# Altium schematic symbol library CM3Board_V1I2.SCHLIB: 170 symbols (part 2 of 5)
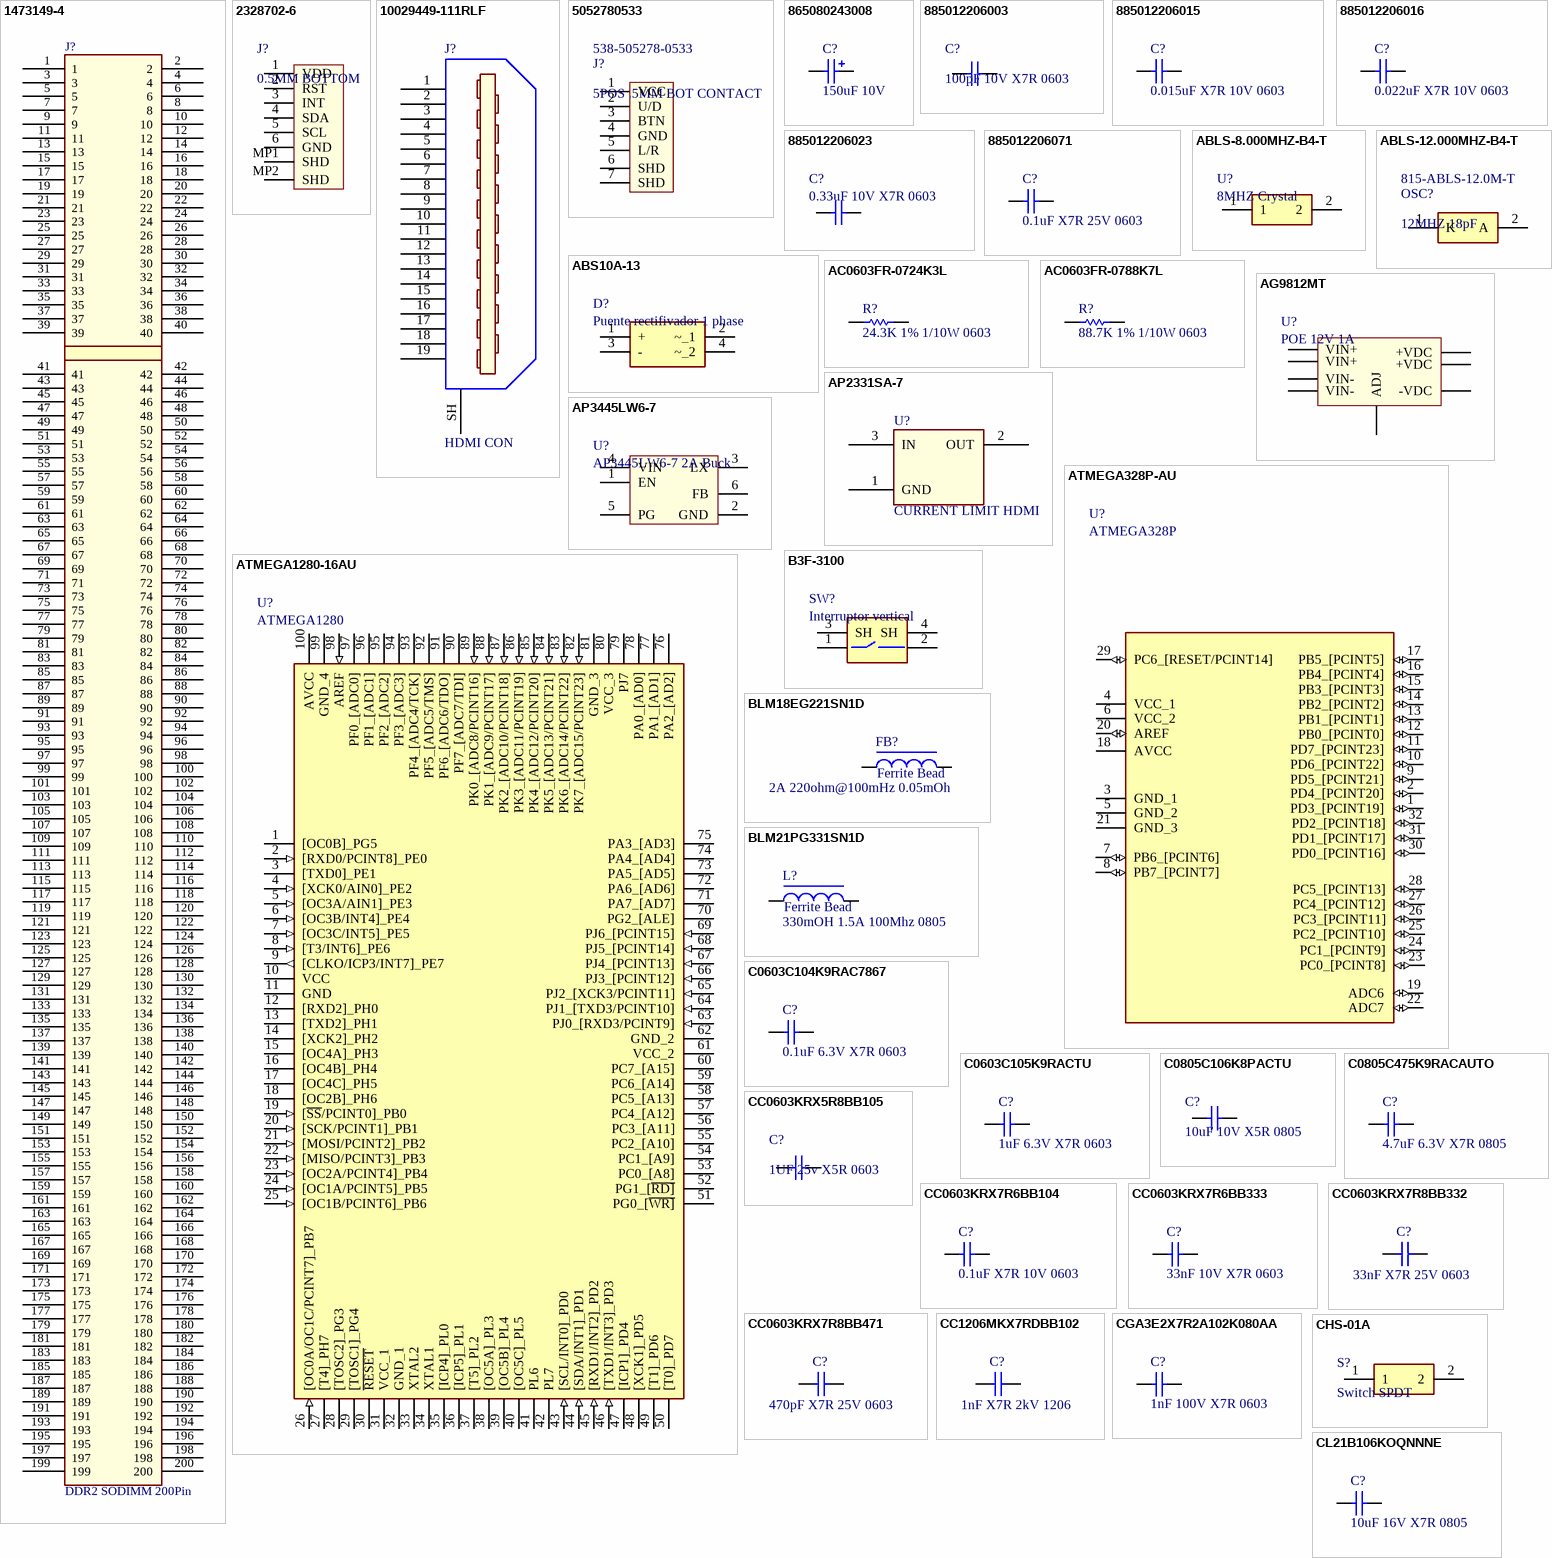
[diagram p6: symbols 1473149-4 to CL21B106KOQNNNE]

## ATMEGA328P-AU
designator U?, comment ATMEGA328P
Microcontroladores (MCU) de 8 bits 32KB In-system Flash 20MHz 1.8V-5.5V; Manufacturer: Microchip / Atmel; Manufacturer Part Number: ATMEGA328P-AU; Interface: I2C,SPI,UART,USART,2-Wire; Number of I/Os: 23; Oscillator Type: Internal; Peripherals: Brown-out Detect/Reset,POR,PWM,WDT; Core Architecture: AVR; RAM Size: 2KB; Max Supply Voltage: 5.5V; Min Supply Voltage: 1.8V; Number of Timers/Counters: 3; Data Bus Width: 8b; Watchdog Timer: Yes; Number of ADC Channels: 8; Number of PWM Channels: 6; Number of SPI Channels: 1; Supplier 1: Mouser; Stock 1: 38495; Pricing 1: 1=2.07, 10=2.04, 50=1.89, 100=1.72, 1000=1.72, 10000=1.72 (USD); Mount: Surface Mount; Case/Package: A; Number of Pins: 32; Min Operating Temperature: -40°C; Max Operating Temperature: 85°C; Packaging: Tray; Frequency: 20MHz; Memory Type: FLASH; Memory Size: 32KB; Package Quantity: 250; Number of Programmable I/O: 23; Max Frequency: 20MHz; Number of I2C Channels: 1; Length: 7mm; Height: 1.05mm; Width: 7mm; Radiation Hardening: No; REACH SVHC: No SVHC; Lead Free: Lead Free; ComponentLink1URL: https://www.verical.com/server-webapp/html/getDatasheet?partID=365828&src-supplier=Verical; ComponentLink1Description: https://www.verical.com/server-webapp/html/getDatasheet?partID=365828&src-supplier=Verical; ComponentLink2URL: http://www.farnell.com/datasheets/1693866.pdf?src-supplier=Element14; ComponentLink2Description: http://www.farnell.com/datasheets/1693866.pdf?src-supplier=Element14; ComponentLink3URL: http://www.produktinfo.conrad.com/datenblaetter/150000-174999/155196-da-01-en-MICROCONTR_ATMEGA328P_AU_8BIT_TQFP_32.pdf?src-supplier=Conrad; ComponentLink3Description: http://www.produktinfo.conrad.com/datenblaetter/150000-174999/155196-da-01-en-MICROCONTR_ATMEGA328P_AU_8BIT_TQFP_32.pdf?src-supplier=Conrad; Supplier Part Number 1: 556-ATMEGA328P-AU
footprint QFP80P900X900X120-32N
pins: 1 PD3_[PCINT19] (io), 2 PD4_[PCINT20] (io), 3 GND_1 (power), 4 VCC_1 (power), 5 GND_2 (power), 6 VCC_2 (power), 7 PB6_[PCINT6] (io), 8 PB7_[PCINT7] (io), 9 PD5_[PCINT21] (io), 10 PD6_[PCINT22] (io), 11 PD7_[PCINT23] (io), 12 PB0_[PCINT0] (io), 13 PB1_[PCINT1] (io), 14 PB2_[PCINT2] (io), 15 PB3_[PCINT3] (io), 16 PB4_[PCINT4] (io), 17 PB5_[PCINT5] (io), 18 AVCC (power), 19 ADC6 (io), 20 AREF (io), 21 GND_3 (power), 22 ADC7 (io), 23 PC0_[PCINT8] (io), 24 PC1_[PCINT9] (io), 25 PC2_[PCINT10] (io), 26 PC3_[PCINT11] (io), 27 PC4_[PCINT12] (io), 28 PC5_[PCINT13] (io), 29 PC6_[RESET/PCINT14] (io), 30 PD0_[PCINT16] (io), 31 PD1_[PCINT17] (io), 32 PD2_[PCINT18] (io)

## ATMEGA1280-16AU
designator U?, comment ATMEGA1280
Microcontroladores (MCU) de 8 bits 128kB Flash 4kB EEPROM 86 I/O Pins; Manufacturer: Microchip / Atmel; Manufacturer Part Number: ATMEGA1280-16AU; Data Bus Width: 8b; Core Architecture: AVR; Interface: SPI,USART,2-Wire,I2C,UART,EBI/EMI; Number of I/Os: 86; Frequency: 16MHz; Oscillator Type: Internal; Peripherals: Brown-out Detect/Reset,POR,PWM,WDT; RAM Size: 8KB; Number of Timers/Counters: 6; Max Supply Voltage: 5.5V; Min Supply Voltage: 2.7V; Watchdog Timer: Yes; Number of PWM Channels: 16; Number of Bits: 8; Number of SPI Channels: 1; Access Time: 16us; Supplier 1: Mouser; Stock 1: 1270; Pricing 1: 1=10.94, 10=10.78, 50=10.03, 100=9.08, 1000=9.08, 10000=9.08 (USD); Mount: Surface Mount; Case/Package: A; Number of Pins: 100; Contact Plating: Tin,Matte; Min Operating Temperature: -40°C; Max Operating Temperature: 85°C; Package Quantity: 90; Packaging: Tray; Memory Type: FLASH; Memory Size: 128KB; Number of Programmable I/O: 86; Max Frequency: 16MHz; Number of ADC Channels: 16; Density: 128KB; Number of I2C Channels: 1; Termination: SMD/SMT; Length: 14.1mm; Height: 1.05mm; Width: 14.1mm; Radiation Hardening: No; REACH SVHC: No SVHC; Lead Free: Lead Free; ComponentLink1URL: http://www.mouser.com/ds/2/36/Atmel-2549-8-bit-AVR-Microcontroller-ATmega640-128-365401.pdf?src-supplier=Mouser; ComponentLink1Description: http://www.mouser.com/ds/2/36/Atmel-2549-8-bit-AVR-Microcontroller-ATmega640-128-365401.pdf?src-supplier=Mouser; ComponentLink2URL: https://www.verical.com/server-webapp/html/getDatasheet?partID=147821&src-supplier=Verical; ComponentLink2Description: https://www.verical.com/server-webapp/html/getDatasheet?partID=147821&src-supplier=Verical; ComponentLink3URL: http://www.farnell.com/datasheets/1817551.pdf?src-supplier=Element14; ComponentLink3Description: http://www.farnell.com/datasheets/1817551.pdf?src-supplier=Element14; ComponentLink4URL: http://www.farnell.com/datasheets/33246.pdf?src-supplier=Farnell; ComponentLink4Description: http://www.farnell.com/datasheets/33246.pdf?src-supplier=Farnell; ComponentLink5URL: http://datasheet.iiic.cc/atmel/ATMEGA1280-16AU.pdf?src-supplier=IIIC; ComponentLink5Description: http://datasheet.iiic.cc/atmel/ATMEGA1280-16AU.pdf?src-supplier=IIIC; Supplier Part Number 1: 556-ATMEGA1280-16AU
footprint QFP50P1600X1600X120-100N
pins: 1 [OC0B]_PG5, 2 [RXD0/PCINT8]_PE0 (in), 3 [TXD0]_PE1, 4 [XCK0/AIN0]_PE2 (in), 5 [OC3A/AIN1]_PE3 (in), 6 [OC3B/INT4]_PE4 (in), 7 [OC3C/INT5]_PE5 (in), 8 [T3/INT6]_PE6 (in), 9 [CLKO/ICP3/INT7]_PE7 (out), 10 VCC (power), 11 GND (power), 12 [RXD2]_PH0, 13 [TXD2]_PH1, 14 [XCK2]_PH2, 15 [OC4A]_PH3, 16 [OC4B]_PH4, 17 [OC4C]_PH5, 18 [OC2B]_PH6, 19 [~{SS}/PCINT0]_PB0 (in), 20 [SCK/PCINT1]_PB1 (in), 21 [MOSI/PCINT2]_PB2 (in), 22 [MISO/PCINT3]_PB3 (in), 23 [OC2A/PCINT4]_PB4 (in), 24 [OC1A/PCINT5]_PB5 (in), 25 [OC1B/PCINT6]_PB6 (in), 26 [OC0A/OC1C/PCINT7]_PB7 (in), 27 [T4]_PH7, 28 [TOSC2]_PG3, 29 [TOSC1]_PG4, 30 ~{RESET}, 31 VCC_1 (power), 32 GND_1 (power), 33 XTAL2, 34 XTAL1, 35 [ICP4]_PL0, 36 [ICP5]_PL1, 37 [T5]_PL2, 38 [OC5A]_PL3, 39 [OC5B]_PL4, 40 [OC5C]_PL5, 41 PL6, 42 PL7, 43 [SCL/INT0]_PD0 (in), 44 [SDA/INT1]_PD1 (in), 45 [RXD1/INT2]_PD2 (in), 46 [TXD1/INT3]_PD3 (in), 47 [ICP1]_PD4, 48 [XCK1]_PD5, 49 [T1]_PD6, 50 [T0]_PD7, 51 PG0_[~{WR]}, 52 PG1_[~{RD]}, 53 PC0_[A8], 54 PC1_[A9], 55 PC2_[A10], 56 PC3_[A11], 57 PC4_[A12], 58 PC5_[A13], 59 PC6_[A14], 60 PC7_[A15], 61 VCC_2 (power), 62 GND_2 (power), 63 PJ0_[RXD3/PCINT9] (in), 64 PJ1_[TXD3/PCINT10] (in), 65 PJ2_[XCK3/PCINT11] (in), 66 PJ3_[PCINT12] (in), 67 PJ4_[PCINT13] (in), 68 PJ5_[PCINT14] (in), 69 PJ6_[PCINT15] (in), 70 PG2_[ALE], 71 PA7_[AD7], 72 PA6_[AD6], 73 PA5_[AD5], 74 PA4_[AD4], 75 PA3_[AD3], 76 PA2_[AD2], 77 PA1_[AD1], 78 PA0_[AD0], 79 PJ7, 80 VCC_3 (power), 81 GND_3 (power), 82 PK7_[ADC15/PCINT23] (in), 83 PK6_[ADC14/PCINT22] (in), 84 PK5_[ADC13/PCINT21] (in), 85 PK4_[ADC12/PCINT20] (in), 86 PK3_[ADC11/PCINT19] (in), 87 PK2_[ADC10/PCINT18] (in), 88 PK1_[ADC9/PCINT17] (in), 89 PK0_[ADC8/PCINT16] (in), 90 PF7_[ADC7/TDI], 91 PF6_[ADC6/TDO], 92 PF5_[ADC5/TMS], 93 PF4_[ADC4/TCK], 94 PF3_[ADC3], 95 PF2_[ADC2], 96 PF1_[ADC1], 97 PF0_[ADC0], 98 AREF (in), 99 GND_4 (power), 100 AVCC (power)

## B3F-3100
designator SW?, comment Interruptor vertical
Interruptores táctiles 3.15mm VERT 100gF; Manufacturer: Omron; Manufacturer Part Number: B3F-3100; Mechanical Life: 1000000Cycles; Contact Resistance: 100mR; Operating Force: 0.98N; Current Rating: 50mA; Voltage Rating (DC): 24V; Throw Configuration: SPST; Illumination Type: Non-Illuminated,Illuminated; Switch Travel: 0.25mm; Switch Function: Off-Mom; Actuator Type: Standard; Actuator Length: 0.9mm; Supplier 1: Mouser; Stock 1: 6238; Pricing 1: 1=0.47, 10=0.452, 50=0.427, 100=0.369, 1000=0.252, 10000=0.235 (USD); Mount: Through Hole; Case/Package: Radial; Weight: 0.25g; Color: Grey; Contact Plating: Gold; Contact Material: Gold,Silver; Min Operating Temperature: -25°C; Max Operating Temperature: 70°C; Package Quantity: 1000; Packaging: Bag; Max Voltage Rating (DC): 24V; Max Current Rating: 50mA; Contact Current Rating: 50mA; Termination: PC Pins; Electrical Life: 1000000Cycles; Orientation: Right Angle; Insulation Resistance: 100MR; Length: 7.3mm; Height: 3.15mm; Width: 6mm; Depth: 7.15mm; REACH SVHC: Unknown; Lead Free: Lead Free; ComponentLink1URL: http://omronfs.omron.com/en_US/ecb/products/pdf/en-b3f.pdf?src-supplier=Digi-Key; ComponentLink1Description: http://omronfs.omron.com/en_US/ecb/products/pdf/en-b3f.pdf?src-supplier=Digi-Key; ComponentLink2URL: http://www.omron.com/ecb/products/pdf/en-b3f.pdf?src-supplier=Farnell; ComponentLink2Description: http://www.omron.com/ecb/products/pdf/en-b3f.pdf?src-supplier=Farnell; ComponentLink3URL: http://www.farnell.com/datasheets/1686088.pdf?src-supplier=Element14; ComponentLink3Description: http://www.farnell.com/datasheets/1686088.pdf?src-supplier=Element14; ComponentLink4URL: https://www.distrelec.biz/Web/Downloads/he/et/B3F_eng_datasheet.pdf?mime=application%2Fpdf&src-supplier=Distrelec; ComponentLink4Description: https://www.distrelec.biz/Web/Downloads/he/et/B3F_eng_datasheet.pdf?mime=application%2Fpdf&src-supplier=Distrelec; ComponentLink5URL: http://www.omron.com/ecb/products/pdf/en-b3f.pdf?src-supplier=Element14; ComponentLink5Description: http://www.omron.com/ecb/products/pdf/en-b3f.pdf?src-supplier=Element14; Supplier Part Number 1: 653-B3F-3100
footprint B3F3100
pins: 1, 2, 3 SH, 4 SH

## BLM18EG221SN1D
designator FB?, comment 2A 220ohm@100mHz 0.05mOh
FILTER CHIP 220 OHM 2A 0603; Manufacturer: Murata; Manufacturer Part Number: BLM18EG221SN1D; Core Material: Ferrite; Material: Ferrite,Steel; Tolerance: 25%; Impedance: 220R; DC Resistance (DCR): 50mR; Number of Lines: 1; Test Frequency: 100MHz; Supplier 1: Mouser; Stock 1: 171384; Pricing 1: 1=0.23, 10=0.136, 50=0.136, 100=0.096, 1000=0.073, 10000=0.073 (USD); Case/Package: 0603; Number of Pins: 2; Case Code (Metric): 1608; Case Code (Imperial): 0603; Contact Plating: Matte,Tin; Min Operating Temperature: -55°C; Max Operating Temperature: 125°C; Max DC Current: 2A; Resistance: 50mR; Package Quantity: 1; Packaging: Tape and Reel; Current Rating: 2A; Max Current Rating: 2A; Termination: SMD/SMT; DC Current: 2A; Military Standard: Not; Frequency: 100MHz; Number of Circuits: 1; Length: 1.6mm; Height: 0.8mm; Width: 0.8mm; Depth: 0.8mm; Radiation Hardening: No; REACH SVHC: No SVHC; Lead Free: Lead Free; ComponentLink1URL: http://uk.rs-online.com/webdocs/13ec/0900766b813ecf4f.pdf; ComponentLink1Description: http://uk.rs-online.com/webdocs/13ec/0900766b813ecf4f.pdf; ComponentLink2URL: http://www.farnell.com/datasheets/5169.pdf; ComponentLink2Description: http://www.farnell.com/datasheets/5169.pdf; ComponentLink3URL: https://www.murata.com/en-global/products/productdata/8796733767710/S0580E.pdf; ComponentLink3Description: https://www.murata.com/en-global/products/productdata/8796733767710/S0580E.pdf; ComponentLink4URL: http://search.murata.co.jp/Ceramy/image/img/PDF/ENG/L0110S0101BLM18E.pdf; ComponentLink4Description: http://search.murata.co.jp/Ceramy/image/img/PDF/ENG/L0110S0101BLM18E.pdf; ComponentLink5URL: https://www.distrelec.biz/Web/Downloads/_t/ds/blm-series_eng_tds.pdf?mime=application%2Fpdf; ComponentLink5Description: https://www.distrelec.biz/Web/Downloads/_t/ds/blm-series_eng_tds.pdf?mime=application%2Fpdf; ComponentLink6URL: http://www.produktinfo.conrad.com/datenblaetter/1100000-1199999/001171699-da-01-en-CHIP_DROSSEL0603_220R_2000MA_1_6X0_8MM.pdf; ComponentLink6Description: http://www.produktinfo.conrad.com/datenblaetter/1100000-1199999/001171699-da-01-en-CHIP_DROSSEL0603_220R_2000MA_1_6X0_8MM.pdf; ComponentLink7URL: http://www.produktinfo.conrad.com/datenblaetter/1100000-1199999/001172265-da-01-en-DROSSEL_0603_220R_1_6X0_8MM_4000ST.pdf; ComponentLink7Description: http://www.produktinfo.conrad.com/datenblaetter/1100000-1199999/001172265-da-01-en-DROSSEL_0603_220R_1_6X0_8MM_4000ST.pdf; Supplier Part Number 1: 81-BLM18EG221SN1D
footprint R 0603/1608
pins: 1, 2
text: Ferrite Bead

## BLM21PG331SN1D
designator L?, comment 330mOH 1.5A 100Mhz 0805
Ferrite Beads Multi-Layer 330Ohm 25% 100MHz 1.5A 70mOhm DCR 0805 Paper T/R; Manufacturer: Murata; Manufacturer Part Number: BLM21PG331SN1D; Material: Ferrite,Steel; Impedance: 330R; DC Resistance (DCR): 70mR; Number of Lines: 1; Shielding: Unshielded; Resistance: 90mR; Supplier 1: Mouser; Stock 1: 148027; Pricing 1: 1=0.12, 10=0.075, 50=0.075, 100=0.044, 1000=0.031, 10000=0.027 (USD); Case/Package: 0805; Number of Pins: 2; Core Material: Ferrite; Case Code (Metric): 2012; Case Code (Imperial): 0805; Min Operating Temperature: -55°C; Max Operating Temperature: 125°C; Tolerance: 25%; Packaging: Tape and Reel; Current Rating: 1.5A; Max DC Current: 1.5A; Number of Circuits: 1; Package Quantity: 1; Max Current Rating: 1.5A; Termination: SMD/SMT; Test Frequency: 100MHz; DC Current: 1.5A; Length: 2mm; Height: 0.85mm; Width: 1.25mm; Depth: 1.25mm; Radiation Hardening: No; REACH SVHC: No SVHC; Lead Free: Lead Free; ComponentLink1URL: https://www.murata.com/en-us/products/productdata/8796738977822/ENFA0005.pdf; ComponentLink1Description: https://www.murata.com/en-us/products/productdata/8796738977822/ENFA0005.pdf; ComponentLink2URL: https://www.distrelec.biz/Web/Downloads/ta/_e/anBLM21P_Data_E.pdf?mime=application%2Fpdf; ComponentLink2Description: https://www.distrelec.biz/Web/Downloads/ta/_e/anBLM21P_Data_E.pdf?mime=application%2Fpdf; ComponentLink3URL: http://search.murata.co.jp/Ceramy/image/img/PDF/ENG/L0110S0100BLM21P.pdf; ComponentLink3Description: http://search.murata.co.jp/Ceramy/image/img/PDF/ENG/L0110S0100BLM21P.pdf; ComponentLink4URL: http://www.murata.com/en-global/api/pdfdownloadapi?cate=luNoiseSupprFilteChipFerriBead&partno=BLM21PG331SN1%23; ComponentLink4Description: http://www.murata.com/en-global/api/pdfdownloadapi?cate=luNoiseSupprFilteChipFerriBead&partno=BLM21PG331SN1%23; ComponentLink5URL: http://www.jameco.com/Jameco/Products/ProdDS/1845347.pdf; ComponentLink5Description: http://www.jameco.com/Jameco/Products/ProdDS/1845347.pdf; ComponentLink6URL: http://www.produktinfo.conrad.com/datenblaetter/1100000-1199999/001172367-da-01-en-DROSSEL_0805_330R_2_0X1_25MM_4000ST.pdf; ComponentLink6Description: http://www.produktinfo.conrad.com/datenblaetter/1100000-1199999/001172367-da-01-en-DROSSEL_0805_330R_2_0X1_25MM_4000ST.pdf; Supplier Part Number 1: 81-BLM21P331SG
footprint R 0805/2012
pins: 1, 2
text: Ferrite Bead

## C0603C104K9RAC7867
designator C?, comment 0.1uF 6.3V X7R 0603
CAP CER 0.1UF 6.3V X7R 0603; Manufacturer: KEMET; Manufacturer Part Number: C0603C104K9RAC7867; Tolerance: ±10%; Notification: Current market demand for these product types have resulted in fluctuating and extending lead times. Lead times may differ.; Supplier 1: Digi-Key; RoHS: RoHS Compliant; Category: Capacitors; Stock 1: 2684; Pricing 1: 1=0.25, 10=0.172, 100=0.0972, 500=0.0686, 1000=0.06003 (EUR); Packaging: Cut Tape (CT); Part Status: Active; Voltage - Rated: 6.3V; Temperature Coefficient: X7R; Operating Temperature: -55°C ~ 125°C; Features: -; Ratings: -; Applications: General Purpose; Failure Rate: -; Mounting Type: Surface Mount, MLCC; Package / Case: 0603 (1608 Metric); Size / Dimension: 0.063" L x 0.032" W (1.60mm x 0.80mm); Height - Seated (Max): -; Thickness (Max): 0.034" (0.87mm); Lead Spacing: -; Lead Style: -; ComponentLink1URL: https://search.kemet.com/component-edge/download/datasheet/C0603C104K9RACTU.pdf; ComponentLink1Description: https://search.kemet.com/component-edge/download/datasheet/C0603C104K9RACTU.pdf; Supplier Part Number 1: 399-15351-1-ND
footprint C 0603/1608
pins: 1, 2

## C0603C105K9RACTU
designator C?, comment 1uF 6.3V X7R 0603
CAP CER 1UF 6.3V X7R 0603; Manufacturer: KEMET; Manufacturer Part Number: C0603C105K9RACTU; Tolerance: ±10%; Notification: Current market demand for these product types have resulted in fluctuating and extending lead times. Lead times may differ.; Supplier 1: Digi-Key; RoHS: RoHS Compliant; Category: Capacitors; Stock 1: 35173; Pricing 1: 1=0.19, 10=0.131, 100=0.0664, 500=0.04542, 1000=0.04019 (EUR); Packaging: Cut Tape (CT); Part Status: Active; Voltage - Rated: 6.3V; Temperature Coefficient: X7R; Operating Temperature: -55°C ~ 125°C; Features: -; Ratings: -; Applications: General Purpose; Failure Rate: -; Mounting Type: Surface Mount, MLCC; Package / Case: 0603 (1608 Metric); Size / Dimension: 0.063" L x 0.032" W (1.60mm x 0.80mm); Height - Seated (Max): -; Thickness (Max): 0.035" (0.90mm); Lead Spacing: -; Lead Style: -; ComponentLink1URL: https://search.kemet.com/component-edge/download/datasheet/C0603C105K9RACTU.pdf; ComponentLink1Description: https://search.kemet.com/component-edge/download/datasheet/C0603C105K9RACTU.pdf; Supplier Part Number 1: 399-11134-1-ND
footprint C 0603/1608
pins: 1, 2

## C0805C106K8PACTU
designator C?, comment 10uF 10V X5R 0805
Cap Ceramic 10uF 10V X5R 10% SMD 0805 85C Plastic T/R; Manufacturer: KEMET; Manufacturer Part Number: C0805C106K8PACTU; Supplier 1: Mouser; RoHS: Yes; Stock 1: 74186; Pricing 1: 1 = 0,18000, 10 = 0,12800, 50 = 0,12800, 100 = 0,06000, 1000 = 0,03400, 10000 = 0,02400 (USD); Mount: Surface Mount; Case/Package: 0805; Contact Plating: Tin; Min Operating Temperature: -55°C; Max Operating Temperature: 85°C; Capacitance: 10uF; Tolerance: 10%; Packaging: Tape and Reel; Dielectric: X5R; Length: 2mm; Height: 1.25mm; Depth: 1.25mm; Radiation Hardening: No; ComponentLink1URL: https://datasheet.ciiva.com/7842/1732709-7842198.pdf?src-supplier=Element14; ComponentLink1Description: https://datasheet.ciiva.com/7842/1732709-7842198.pdf?src-supplier=Element14; ComponentLink2URL: https://datasheet.ciiva.com/22704/1732709-22704859.pdf?src-supplier=Element14; ComponentLink2Description: https://datasheet.ciiva.com/22704/1732709-22704859.pdf?src-supplier=Element14; ComponentLink3URL: https://datasheet.ciiva.com/7842/40889-7842552.pdf?src-supplier=Element14; ComponentLink3Description: https://datasheet.ciiva.com/7842/40889-7842552.pdf?src-supplier=Element14; Supplier Part Number 1: 80-C0805C106K8P
footprint C 0805/2012
pins: 1, 2

## C0805C475K9RACAUTO
designator C?, comment 4.7uF 6.3V X7R 0805
CAP CER 4.7UF 6.3V X7R 0805; Manufacturer: KEMET; Manufacturer Part Number: C0805C475K9RACAUTO; Tolerance: ±10%; Supplier 1: Digi-Key; RoHS: RoHS Compliant; Category: Capacitors; Stock 1: 5000; Pricing 1: 1=0.45, 10=0.312, 100=0.1874, 500=0.14054, 1000=0.11868 (EUR); Packaging: Cut Tape (CT); Part Status: Active; Voltage - Rated: 6.3V; Temperature Coefficient: X7R; Operating Temperature: -55°C ~ 125°C; Features: -; Ratings: AEC-Q200; Applications: Automotive; Failure Rate: -; Mounting Type: Surface Mount, MLCC; Package / Case: 0805 (2012 Metric); Size / Dimension: 0.079" L x 0.049" W (2.00mm x 1.25mm); Height - Seated (Max): -; Thickness (Max): 0.055" (1.40mm); Lead Spacing: -; Lead Style: -; ComponentLink1URL: https://search.kemet.com/component-edge/download/datasheet/C0805C475K9RACAUTO.pdf; ComponentLink1Description: https://search.kemet.com/component-edge/download/datasheet/C0805C475K9RACAUTO.pdf; Supplier Part Number 1: 399-15719-1-ND
footprint C 0805/2012
pins: 1, 2

## CC0603KRX5R8BB105
designator C?, comment 1UF 25v X5R 0603
CAP CER 1UF 25V X5R 0603; Manufacturer: Yageo; Manufacturer Part Number: CC0603KRX5R8BB105; Tolerance: 10%; Supplier 1: Mouser; RoHS: Yes; Stock 1: 9567246; Pricing 1: 1 = 0,10000, 10 = 0,04700, 50 = 0,04700, 100 = 0,01700, 1000 = 0,01600, 10000 = 0,00800 (USD); Mount: Surface Mount; Case/Package: 0603; Number of Pins: 2; Case Code (Metric): 1608; Case Code (Imperial): 0603; Min Operating Temperature: -55°C; Max Operating Temperature: 85°C; Package Quantity: 1; Capacitance: 1uF; Voltage Rating: 25V; Packaging: Tape and Reel; Dielectric: X5R; Termination: SMD/SMT; Voltage Rating (DC): 25V; Length: 1.6mm; Height: 0.8mm; Width: 0.031inch; Thickness: 0.035inch; Depth: 0.8mm; Radiation Hardening: No; REACH SVHC: No SVHC; Lead Free: Lead Free; Halogen Free: Halogen Free; ComponentLink1URL: https://datasheet.ciiva.com/176/mlccorderingcode-176785.pdf?src-supplier=Digi-Key; ComponentLink1Description: https://datasheet.ciiva.com/176/mlccorderingcode-176785.pdf?src-supplier=Digi-Key; ComponentLink2URL: https://datasheet.ciiva.com/176/mlccorderingcode-176786.pdf?src-supplier=Digi-Key; ComponentLink2Description: https://datasheet.ciiva.com/176/mlccorderingcode-176786.pdf?src-supplier=Digi-Key; ComponentLink3URL: https://datasheet.ciiva.com/176/mlccorderingcode-176787.pdf?src-supplier=Digi-Key; ComponentLink3Description: https://datasheet.ciiva.com/176/mlccorderingcode-176787.pdf?src-supplier=Digi-Key; ComponentLink4URL: https://datasheet.ciiva.com/17436/upy-gphc-x5r-4v-to-50v-12-17436952.pdf?src-supplier=Avnet+Europe; ComponentLink4Description: https://datasheet.ciiva.com/17436/upy-gphc-x5r-4v-to-50v-12-17436952.pdf?src-supplier=Avnet+Europe; ComponentLink5URL: https://datasheet.ciiva.com/7978/1525783-7978171.pdf?src-supplier=Element14; ComponentLink5Description: https://datasheet.ciiva.com/7978/1525783-7978171.pdf?src-supplier=Element14; ComponentLink6URL: https://datasheet.ciiva.com/11586/upy-gphc-x5r-4v-to-50v-12-11586318.pdf?src-supplier=Avnet; ComponentLink6Description: https://datasheet.ciiva.com/11586/upy-gphc-x5r-4v-to-50v-12-11586318.pdf?src-supplier=Avnet; Supplier Part Number 1: 603-CC603KRX5R8BB105
footprint C 0603/1608
pins: 1, 2

## CC0603KRX7R6BB104
designator C?, comment 0.1uF X7R 10V 0603
Multilayer Ceramic Capacitors MLCC - SMD/SMT 100nF 10V X7R 10%; Manufacturer: Yageo; Manufacturer Part Number: CC0603KRX7R6BB104; Supplier 1: Mouser; Stock 1: 15698; Pricing 1: 1=0.12, 10=0.06, 50=0.06, 100=0.027, 1000=0.022, 10000=0.016 (USD); Mount: Surface Mount; Case/Package: 0603; Weight: 7.1E-05oz; Case Code (Imperial): 0603; Case Code (Metric): 1608; Min Operating Temperature: -55°C; Max Operating Temperature: 125°C; Capacitance: 100nF; Tolerance: 10%; Dielectric: X7R; Voltage Rating: 10V; Voltage Rating (DC): 10V; Packaging: Tape and Reel; Termination: SMD/SMT; Composition: Ceramic; Length: 1.6mm; Height: 0.8mm; Width: 0.8mm; Thickness: 0.035inch; Depth: 0.8mm; Radiation Hardening: No; Lead Free: Lead Free; Halogen Free: Halogen Free; ComponentLink1URL: http://www.yageo.com/documents/recent/UPY-GPHC_X7R_6.3V-to-50V_8.pdf; ComponentLink1Description: http://www.yageo.com/documents/recent/UPY-GPHC_X7R_6.3V-to-50V_8.pdf; Supplier Part Number 1: 603-CC603KRX7R6BB104
footprint C 0603/1608
pins: 1, 2

## CC0603KRX7R6BB333
designator C?, comment 33nF 10V X7R 0603
Multilayer Ceramic Capacitors MLCC - SMD/SMT 33nF 10V X7R 10%; Manufacturer: Yageo; Manufacturer Part Number: CC0603KRX7R6BB333; Supplier 1: Mouser; Stock 1: 2180; Pricing 1: 1=0.11, 10=0.056, 50=0.056, 100=0.025, 1000=0.02, 10000=0.013 (USD); Mount: Surface Mount; Case/Package: 0603; Weight: 7.1E-05oz; Case Code (Imperial): 0603; Case Code (Metric): 1608; Min Operating Temperature: -55°C; Max Operating Temperature: 125°C; Capacitance: 33nF; Voltage Rating (DC): 10V; Tolerance: 10%; Packaging: Tape and Reel; Dielectric: X7R; Voltage Rating: 10V; Termination: SMD/SMT; Composition: Ceramic; Length: 0.063inch; Width: 0.031inch; Thickness: 0.035inch; Lead Free: Lead Free; Halogen Free: Halogen Free; ComponentLink1URL: http://www.mouser.com/ds/2/447/Yageo_UPY-GP_NP0_16V-to-50V_9-358835.pdf?src-supplier=Mouser; ComponentLink1Description: http://www.mouser.com/ds/2/447/Yageo_UPY-GP_NP0_16V-to-50V_9-358835.pdf?src-supplier=Mouser; Supplier Part Number 1: 603-CC603KRX7R6BB333
footprint C 0603/1608
pins: 1, 2

## CC0603KRX7R8BB332
designator C?, comment 33nF X7R 25V 0603
Cap Ceramic 0.0033uF 25V X7R 10% SMD 0603 125C Paper T/R; Manufacturer: Yageo; Manufacturer Part Number: CC0603KRX7R8BB332; Capacitance: 3.3nF; Dissipation Factor: 2.5%; Insulation Resistance: 10GR; Supplier 1: Mouser; Stock 1: 116226; Pricing 1: 1=0.1, 10=0.039, 50=0.039, 100=0.018, 1000=0.014, 10000=0.01 (USD); Mount: Surface Mount; Case/Package: 0603; Min Operating Temperature: -55°C; Max Operating Temperature: 125°C; Tolerance: 10%; Packaging: Tape and Reel; Voltage Rating: 25V; Dielectric: X7R; Voltage Rating (DC): 25V; Length: 0.063inch; Width: 0.031inch; Thickness: 0.035inch; Depth: 0.8mm; Lead Free: Lead Free; Halogen Free: Halogen Free; Supplier Part Number 1: 603-CC603KRX7R8BB332
footprint C 0603/1608
pins: 1, 2

## CC0603KRX7R8BB471
designator C?, comment 470pF X7R 25V 0603
Multilayer Ceramic Capacitors MLCC - SMD/SMT 470pF 25V X7R 10%; Manufacturer: Yageo; Manufacturer Part Number: CC0603KRX7R8BB471; Supplier 1: Mouser; Stock 1: 6168; Pricing 1: 1=0.1, 10=0.039, 50=0.039, 100=0.018, 1000=0.014, 10000=0.01 (USD); Mount: Surface Mount; Case/Package: 0603; Weight: 7.1E-05oz; Case Code (Imperial): 0603; Case Code (Metric): 1608; Min Operating Temperature: -55°C; Max Operating Temperature: 125°C; Capacitance: 470pF; Tolerance: 10%; Voltage Rating: 25V; Voltage Rating (DC): 25V; Packaging: Tape and Reel; Dielectric: X7R; Termination: SMD/SMT; Composition: Ceramic; Length: 0.063inch; Width: 0.031inch; Thickness: 0.035inch; Lead Free: Lead Free; Halogen Free: Halogen Free; ComponentLink1URL: http://www.mouser.com/ds/2/447/Yageo_UPY-GP_NP0_16V-to-50V_9-358835.pdf; ComponentLink1Description: http://www.mouser.com/ds/2/447/Yageo_UPY-GP_NP0_16V-to-50V_9-358835.pdf; Supplier Part Number 1: 603-CC603KRX7R8BB471
footprint C 0603/1608
pins: 1, 2

## CC1206MKX7RDBB102
designator C?, comment 1nF X7R 2kV 1206
Multilayer Ceramic Capacitors MLCC - SMD/SMT 1.0nF 2K V X7R 20%; Manufacturer: Yageo; Manufacturer Part Number: CC1206MKX7RDBB102; Supplier 1: Mouser; Stock 1: 1305; Pricing 1: 1=0.26, 10=0.151, 50=0.151, 100=0.073, 1000=0.065, 10000=0.046 (USD); Mount: Surface Mount; Case/Package: 1206; Min Operating Temperature: -55°C; Max Operating Temperature: 125°C; Packaging: Tape and Reel; Capacitance: 1nF; Dielectric: X7R; Voltage Rating: 2kV; Tolerance: 20%; Length: 0.126inch; Width: 0.063inch; Thickness: 0.057inch; Supplier Part Number 1: 603-CC126MKX7RDBB102
footprint C 1206/3216
pins: 1, 2

## CGA3E2X7R2A102K080AA
designator C?, comment 1nF 100V X7R 0603
TDK         CGA3E2X7R2A102K080AA             SMD Multilayer Ceramic Capacitor, 0603 [1608 Metric], 1000 pF, 100 V,  10%, X7R, CGA Series; Supplier 1: Mouser; Manufacturer: TDK; Manufacturer Part Number: CGA3E2X7R2A102K080AA; Stock 1: 102606; Pricing 1: 1=0.1, 10=0.076, 50=0.076, 100=0.034, 1000=0.019, 10000=0.014 (USD); Mount: Surface Mount; Case/Package: 0603; Weight: 7.1E-05oz; Case Code (Metric): 1608; Case Code (Imperial): 0603; Min Operating Temperature: -55°C; Max Operating Temperature: 125°C; Capacitance: 1nF; Voltage Rating: 100V; Tolerance: 10%; Packaging: Tape and Reel; Voltage Rating (DC): 100V; Dielectric: X7R; Termination: SMD/SMT; Package Quantity: 1; Composition: Ceramic; Length: 1.6mm; Height: 0.8mm; Depth: 0.8mm; Width: 0.031inch; Thickness: 0.035inch; Ratings: AEC-Q200; REACH SVHC: No SVHC; ComponentLink1URL: http://www.farnell.com/datasheets/1807242.pdf; ComponentLink1Description: http://www.farnell.com/datasheets/1807242.pdf; ComponentLink2URL: http://www.mouser.com/ds/2/400/lcc_automotive_midvoltage_en-355485.pdf; ComponentLink2Description: http://www.mouser.com/ds/2/400/lcc_automotive_midvoltage_en-355485.pdf; Supplier Part Number 1: 810-CGA3E2X7R2A102K
footprint C 0603/1608
pins: 1, 2

## CHS-01A
designator S?, comment Switch SPDT
LCSC: *
footprint CHS-01A
pins: 1, 2

## CL21B106KOQNNNE
designator C?, comment 10uF 16V X7R 0805
CAP CER 10UF 16V X7R 0805; Manufacturer: Samsung Electro-Mechanics; Manufacturer Part Number: CL21B106KOQNNNE; Tolerance: ±10%; Notification: Current market demand for these product types have resulted in fluctuating and extending lead times. Lead times may differ.; Supplier 1: Digi-Key; RoHS: RoHS Compliant; Category: Capacitors; Stock 1: 20000; Pricing 1: 1=0.24, 10=0.163, 100=0.0923, 500=0.06514, 1000=0.057 (GBP); Packaging: Cut Tape (CT); Part Status: Active; Voltage - Rated: 16V; Temperature Coefficient: X7R; Operating Temperature: -55°C ~ 125°C; Features: -; Ratings: -; Applications: General Purpose; Mounting Type: Surface Mount, MLCC; Package / Case: 0805 (2012 Metric); Size / Dimension: 0.079" L x 0.049" W (2.00mm x 1.25mm); Height - Seated (Max): -; Thickness (Max): 0.055" (1.40mm); Lead Spacing: -; Lead Style: -; ComponentLink1URL: http://www.samsungsem.com/kr/support/product-search/mlcc/CL21B106KOQNNNE.jsp; ComponentLink1Description: http://www.samsungsem.com/kr/support/product-search/mlcc/CL21B106KOQNNNE.jsp; Supplier Part Number 1: 1276-2872-1-ND
footprint C 0805/2012
pins: 1, 2

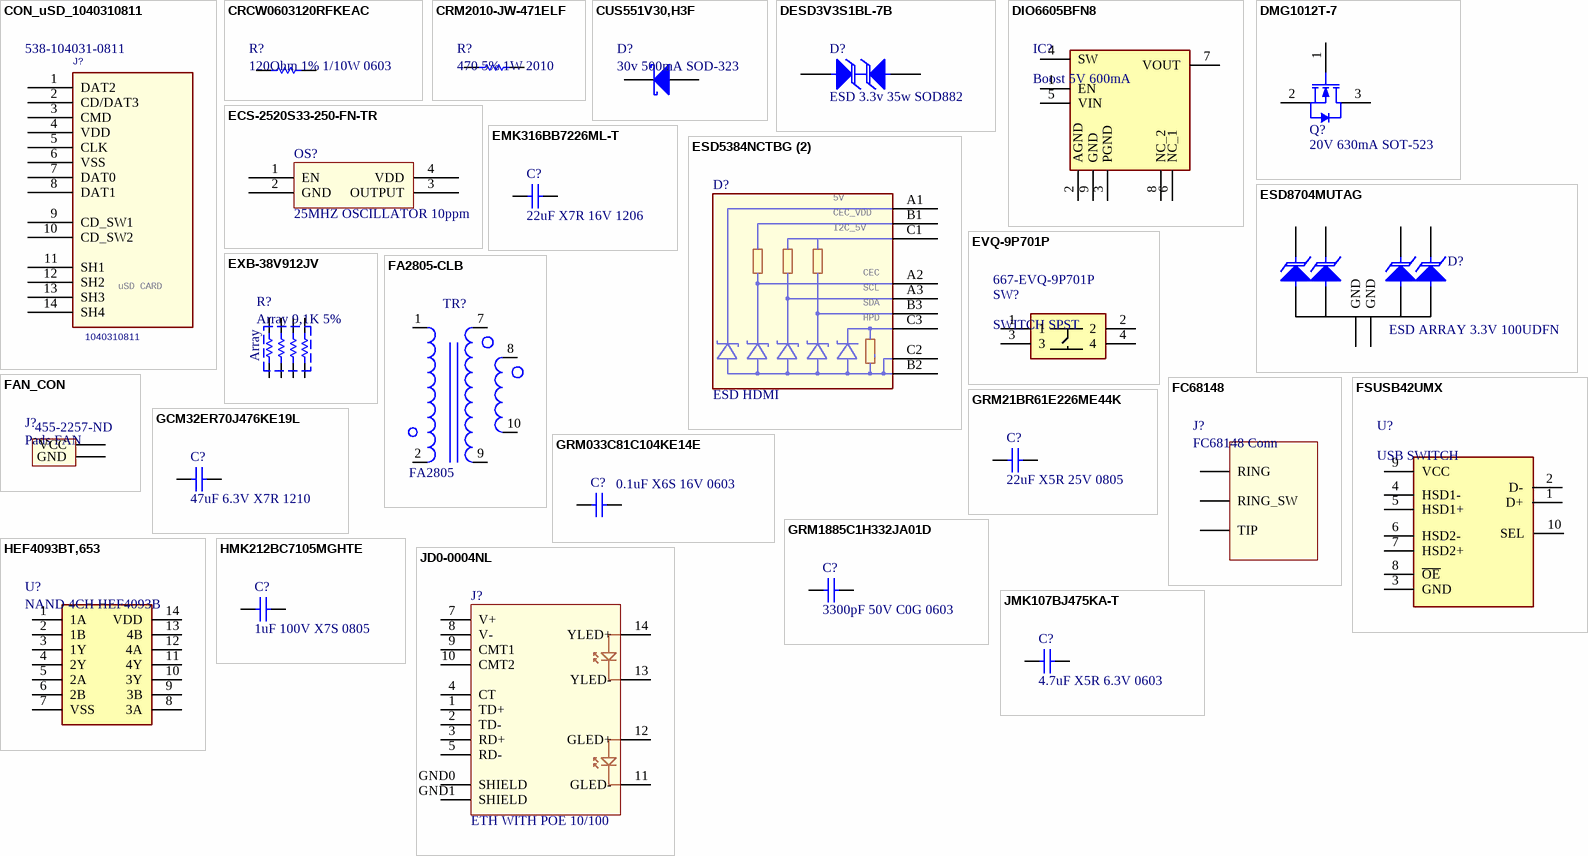
[diagram p2: symbols CON_uSD_1040310811 to JMK107BJ475KA-T]

## CON_uSD_1040310811
designator J?, comment 1040310811  Supplier Part Number 1: 538-104031-0811
uSD, Normal Mount, SMT, Push-Pull; Manufacturer: Molex; Manuf. Part No: 1040310811; Supplier 1: Mouser
footprint MOLEX_1040310811
pins: 1 DAT2, 2 CD/DAT3, 3 CMD, 4 VDD (power), 5 CLK, 6 VSS (power), 7 DAT0, 8 DAT1, 9 CD_SW1, 10 CD_SW2, 11 SH1, 12 SH2, 13 SH3, 14 SH4
text: uSD CARD

## CRCW0603120RFKEAC
designator R?, comment 120Ohm 1% 1/10W 0603
RES SMD 120 OHM 1% 1/10W 0603; Manufacturer: Vishay; Manufacturer Part Number: CRCW0603120RFKEAC; Supplier 1: Mouser; Stock 1: 84620; Pricing 1: 1=0.1, 10=0.033, 50=0.033, 100=0.014, 1000=0.006, 10000=0.005 (USD); Supplier Part Number 1: 71-CRCW0603120RFKEAC
footprint R 0603/1608
pins: 1, 2

## CRM2010-JW-471ELF
designator R?, comment 470 5% 1W 2010
Res Thick Film 2010 470 Ohm 5% 1W ±200ppm/C Molded SMD T/R; Manufacturer: Bourns; Manufacturer Part Number: CRM2010-JW-471ELF; Resistance: 470R; Temperature Coefficient: 200ppm/°C; Supplier 1: Mouser; RoHS: Yes; Stock 1: 3610; Pricing 1: 1 = 0,30000, 10 = 0,12800, 50 = 0,12800, 100 = 0,08100, 1000 = 0,05300, 10000 = 0,04400 (USD); Case/Package: 2010; Min Operating Temperature: -55°C; Max Operating Temperature: 155°C; Tolerance: 5%; Composition: Thick Film; Packaging: Tape and Reel; Package Quantity: 4000; Number of Terminations: 2; Military Standard: Not; Max Power Dissipation: 1W; Length: 0.197inch; Height: 0.028inch; Width: 0.098inch; Depth: 2.5mm; ComponentLink1URL: https://datasheet.ciiva.com/29521/crm0805-1206-2010-29521899.pdf?src-supplier=Digi-Key; ComponentLink1Description: https://datasheet.ciiva.com/29521/crm0805-1206-2010-29521899.pdf?src-supplier=Digi-Key; ComponentLink2URL: https://datasheet.ciiva.com/9119/crm0805-1206-2010-9119734.pdf?src-supplier=Avnet; ComponentLink2Description: https://datasheet.ciiva.com/9119/crm0805-1206-2010-9119734.pdf?src-supplier=Avnet; ComponentLink3URL: https://datasheet.ciiva.com/16929/crm0805-1206-2010-16929334.pdf?src-supplier=Avnet+Europe; ComponentLink3Description: https://datasheet.ciiva.com/16929/crm0805-1206-2010-16929334.pdf?src-supplier=Avnet+Europe; Supplier Part Number 1: 652-CRM2010JW471ELF
footprint R 2010/5025
pins: 1, 2

## CUS551V30,H3F
designator D?, comment 30v 500mA SOD-323
Diodos y rectificadores Schottky SM Sig Schotky Diode 30 VR 0.5A 1 Circuit; Manufacturer: Toshiba; Manufacturer Part Number: CUS551V30,H3F; Max Surge Current: 5A; Supplier 1: Mouser; Stock 1: 7027; Pricing 1: 1=0.29, 10=0.186, 50=0.186, 100=0.078, 1000=0.053, 10000=0.035 (USD); Mount: Surface Mount; Packaging: Tape and Reel; Average Rectified Current: 500mA; Max Reverse Voltage (DC): 30V; ComponentLink1URL: https://toshiba.semicon-storage.com/info/docget.jsp?did=10394&prodName=CUS551V30&src-supplier=Digi-Key; ComponentLink1Description: https://toshiba.semicon-storage.com/info/docget.jsp?did=10394&prodName=CUS551V30&src-supplier=Digi-Key; Supplier Part Number 1: 757-CUS551V30H3F
footprint SOD-323F
pins: 1 K, 2 A

## DESD3V3S1BL-7B
designator D?, comment ESD 3.3v 35w SOD882
Diode TVS Single Bi-Directional 3.3V 35W 2-Pin X1-DFN1006 T/R; Manufacturer: Diodes; Manufacturer Part Number: DESD3V3S1BL-7B; Direction: Bidirectional; Number of Bidirectional Channels: 1; Min Breakdown Voltage: 3.8V; Clamping Voltage: 7V; Power Line Protection: No; Max Reverse Leakage Current: 100nA; Breakdown Voltage: 6.5V; Peak Pulse Current: 5A; Supplier 1: Mouser; Stock 1: 67689; Pricing 1: 1=0.48, 10=0.361, 50=0.361, 100=0.196, 1000=0.147, 10000=0.118 (USD); Mount: Surface Mount; Number of Pins: 2; Min Operating Temperature: -65°C; Max Operating Temperature: 150°C; Packaging: Tape and Reel; Package Quantity: 10000; Reverse Standoff Voltage: 3.3V; Peak Pulse Power: 35W; Element Configuration: Single; Polarity: Bidirectional; Termination: SMD/SMT; Working Voltage: 3.3V; Max Power Dissipation: 35W; Composition: Zener; Radiation Hardening: No; ComponentLink1URL: http://diodes.com/datasheets/DESD3V3S1BL.pdf?src-supplier=Avnet; ComponentLink1Description: http://diodes.com/datasheets/DESD3V3S1BL.pdf?src-supplier=Avnet; Supplier Part Number 1: 621-DESD3V3S1BL-7B
footprint SOD-882
pins: 1 A, 2 A

## DIO6605BFN8
designator IC?, comment Boost 5V 600mA
Integrated Circuit; Manufacturer_Name: DIOO; Manufacturer_Part_Number: DIO6605BFN8; Datasheet Link: https://eu.mouser.com/datasheet/2/802/dioo_06292016_DIO6605B V0 2-1217633.pdf; Height: 0.8mm; Mouser Part Number: 453-DIO6605BFN8
footprint SON50P300X200X80-9N-D
pins: 1 EN, 2 AGND, 3 PGND, 4 SW, 5 VIN, 6 NC_1, 7 VOUT, 8 NC_2, 9 GND

## DMG1012T-7
designator Q?, comment 20V 630mA SOT-523
MOSFET N-CH 20V 630MA SOT-523; Manufacturer: Diodes; Manufacturer Part Number: DMG1012T-7; Rise Time: 7.4ns; Fall Time: 12.3ns; Turn-On Delay Time: 5.1ns; Turn-Off Delay Time: 26.7ns; Gate to Source Voltage (Vgs): 6V; Rds On Max: 400mR; Input Capacitance: 60.67pF; Max Power Dissipation: 280mW; Number of Elements: 1; Drain to Source Resistance: 300mR; Threshold Voltage: 1V; Element Configuration: Single; FET Type: 1 N-Channel; Supplier 1: Mouser; Stock 1: 2172; Pricing 1: 1=0.3, 10=0.198, 50=0.198, 100=0.083, 1000=0.057, 10000=0.038 (USD); Mount: Surface Mount; Case/Package: SOT-523; Number of Pins: 3; Weight: 7.1E-05oz; Contact Plating: Matte,Tin; Min Operating Temperature: -55°C; Max Operating Temperature: 150°C; Continuous Drain Current (ID): 630mA; Package Quantity: 3000; Packaging: Tape and Reel; Drain to Source Voltage (Vdss): 20V; Number of Channels: 1; Drain to Source Breakdown Voltage: 20V; Power Dissipation: 280mW; On-State Resistance: 400MR; Length: 1.7mm; Height: 0.8mm; Width: 0.85mm; Radiation Hardening: No; REACH SVHC: No SVHC; Lead Free: Lead Free; ComponentLink1URL: https://www.diodes.com/assets/Datasheets/ds31783.pdf?src-supplier=Digi-Key; ComponentLink1Description: https://www.diodes.com/assets/Datasheets/ds31783.pdf?src-supplier=Digi-Key; ComponentLink2URL: http://www.mouser.com/ds/2/115/ds31783-44973.pdf?src-supplier=Mouser; ComponentLink2Description: http://www.mouser.com/ds/2/115/ds31783-44973.pdf?src-supplier=Mouser; ComponentLink3URL: http://www.diodes.com//datasheets/ds31783.pdf?src-supplier=Avnet; ComponentLink3Description: http://www.diodes.com//datasheets/ds31783.pdf?src-supplier=Avnet; ComponentLink4URL: http://www.diodes.com//datasheets/ds31783.pdf?src-supplier=Avnet+Europe; ComponentLink4Description: http://www.diodes.com//datasheets/ds31783.pdf?src-supplier=Avnet+Europe; Supplier Part Number 1: 621-DMG1012T-7
footprint SOT-523 (SOT23, 3-Leads, Body 2.92x1.3mm, Pitch 0.95mm)
pins: 1 G, 2 S, 3 D

## ECS-2520S33-250-FN-TR
designator OS?, comment 25MHZ OSCILLATOR 10ppm
Osciladores de reloj estándar 25MHz 3.3V 10ppm -40C +85C; Manufacturer: ECS International; Manufacturer Part Number: ECS-2520S33-250-FN-TR; Supplier 1: Mouser; Stock 1: 1411; Pricing 1: 1=1.48, 10=1.41, 50=1.38, 100=1.18, 1000=0.885, 10000=0.78 (USD); Supplier Part Number 1: 520-2520S33-250-FNT
footprint ECS-2520S33-250-FN-TR
pins: 1 EN, 2 GND, 3 OUTPUT, 4 VDD

## EMK316BB7226ML-T
designator C?, comment 22uF X7R 16V 1206
CAP ,MLCC ,1206,16V ,X7R,2.2UF 20% ,T&R; Manufacturer: Taiyo Yuden; Manufacturer Part Number: EMK316BB7226ML-T; Supplier 1: Mouser; Stock 1: 197096; Pricing 1: 10000=0.207 (USD); Mount: Surface Mount; Case/Package: 1206; Case Code (Metric): 3216; Case Code (Imperial): 1206; Min Operating Temperature: -55°C; Max Operating Temperature: 125°C; Capacitance: 22uF; Packaging: Tape and Reel; Voltage Rating: 16V; Tolerance: 20%; Dielectric: X7R; Length: 0.126inch; Width: 0.063inch; Thickness: 0.071inch; Lead Free: Lead Free; Supplier Part Number 1: 963-EMK316BB7226ML-T
footprint C 1206/3216
pins: 1, 2

## ESD5384NCTBG (2)
designator D?, comment ESD HDMI
TVS DIODE 3VWM 9WLCSP; Manufacturer: ON Semiconductor; Manufacturer Part Number: ESD5384NCTBG; Capacitance: 29pF; Direction: Unidirectional; Number of Unidirectional Channels: 5; Reverse Standoff Voltage: 3V; Min Breakdown Voltage: 6V; Power Line Protection: No; ESD Protection: Yes; Max Reverse Leakage Current: 200nA; Supplier 1: Mouser; Stock 1: 4777; Pricing 1: 1=0.44, 10=0.362, 50=0.362, 100=0.221, 1000=0.171, 10000=0.145 (USD); Number of Pins: 9; Min Operating Temperature: -30°C; Max Operating Temperature: 85°C; Package Quantity: 5000; Packaging: Tape and Reel; Number of Lines: 5; Composition: Zener; Length: 1.14mm; Height: 0.63mm; Width: 1.14mm; Depth: 1.14mm; Radiation Hardening: No; Lead Free: Lead Free; Halogen Free: Halogen Free; ComponentLink1URL: http://www.onsemi.com/pub/Collateral/ESD5384-D.PDF?src-supplier=Avnet; ComponentLink1Description: http://www.onsemi.com/pub/Collateral/ESD5384-D.PDF?src-supplier=Avnet; ComponentLink2URL: http://www.onsemi.com/pub/Collateral/ESD5384-D.PDF?src-supplier=Digi-Key; ComponentLink2Description: http://www.onsemi.com/pub/Collateral/ESD5384-D.PDF?src-supplier=Digi-Key; ComponentLink3URL: http://www.onsemi.com/pub_link/Collateral/ESD5384-D.PDF?src-supplier=Mouser; ComponentLink3Description: http://www.onsemi.com/pub_link/Collateral/ESD5384-D.PDF?src-supplier=Mouser; Supplier Part Number 1: 863-ESD5384NCTBG
footprint ESD5384NCTBG ESD HDMI
pins: A1 5V, A2 CEC, A3 SCL, B1 CEC_VDD, B2 COM (power), B3 SDA, C1 I2C_5V, C2 COM (power), C3 HPD

## ESD8704MUTAG
designator D?, comment ESD ARRAY 3.3V 100UDFN
TVS DIODE 3.3VWM 10UDFN; Manufacturer: ON Semiconductor; Manufacturer Part Number: ESD8704MUTAG; Number of Unidirectional Channels: 4; Min Breakdown Voltage: 5V; Power Line Protection: No; Direction: Unidirectional; Capacitance: 0.5pF; Element Configuration: Single; Clamping Voltage: 6.6V; Supplier 1: Mouser; Stock 1: 8108; Pricing 1: 1=0.47, 10=0.354, 50=0.354, 100=0.192, 1000=0.144, 10000=0.116 (USD); Mount: Surface Mount; Number of Pins: 10; Min Operating Temperature: -55°C; Max Operating Temperature: 125°C; Packaging: Tape and Reel; Reverse Standoff Voltage: 3.3V; Working Voltage: 3.3V; Composition: Zener; Lead Free: Lead Free; Supplier Part Number 1: 863-ESD8704MUTAG
footprint DIODE_ESD3V3_X4
pins: 1 I/O, 2 I/O, 3 GND, 4 I/O, 5 I/O, 8 GND

## EVQ-9P701P
designator SW?, comment SWITCH SPST  Supplier Part Number 1: 667-EVQ-9P701P
SWITCH TACTILE SPST-NO 0.05A 12V; Manufacturer: Panasonic; Manufacturer Part Number: EVQ-9P701P; Mechanical Life: 100000Cycles; Illumination Type: Non-Illuminated; Operating Force: 160gf; Switch Travel: 0.2mm; Switch Function: Off-Mom; Supplier 1: Mouser; RoHS: Yes; Stock 1: 4842; Pricing 1: 1 = 0,31000, 10 = 0,30000, 50 = 0,27800, 100 = 0,26800, 1000 = 0,18200, 10000 = 0,13700 (USD); Mount: Surface Mount; Contact Plating: Gold; Min Operating Temperature: -20°C; Max Operating Temperature: 70°C; Packaging: Tape and Reel; Termination: Gull Wing; Throw Configuration: SPST; ComponentLink1URL: http://www.mouser.com/ds/2/315/ATK0000CE20-767376.pdf?src-supplier=Mouser; ComponentLink1Description: http://www.mouser.com/ds/2/315/ATK0000CE20-767376.pdf?src-supplier=Mouser; ComponentLink2URL: https://na.industrial.panasonic.com/sites/default/pidsa/files/downloads/files/line_card_catalog_2015_electromechanical.pdf?src-supplier=Digi-Key; ComponentLink2Description: https://na.industrial.panasonic.com/sites/default/pidsa/files/downloads/files/line_card_catalog_2015_electromechanical.pdf?src-supplier=Digi-Key; ComponentLink3URL: http://industrial.panasonic.com/lecs/www-data/pdf/ATK0000/ATK0000CE20.pdf?src-supplier=Avnet+Asia; ComponentLink3Description: http://industrial.panasonic.com/lecs/www-data/pdf/ATK0000/ATK0000CE20.pdf?src-supplier=Avnet+Asia; ComponentLink4URL: http://industrial.panasonic.com/lecs/www-data/pdf/ATK0000/ATK0000CE20.pdf?src-supplier=Avnet; ComponentLink4Description: http://industrial.panasonic.com/lecs/www-data/pdf/ATK0000/ATK0000CE20.pdf?src-supplier=Avnet
footprint EVQ-9P701P
pins: 1, 2, 3, 4

## EXB-38V912JV
designator R?, comment Array 9,1K 5%
Redes y matrices de resistencias Resistor Array Chip 4 elements; Manufacturer: Panasonic; Manufacturer Part Number: EXB-38V912JV; Resistance: 9.1kR; Circuit Type: Isolated; Number of Resistors: 4; Power Per Element: 62.5mW; Temperature Coefficient: 200ppm/°C; Supplier 1: Mouser; Stock 1: 29940; Pricing 1: 1=0.13, 10=0.046, 50=0.046, 100=0.026, 1000=0.013, 10000=0.007 (USD); Mount: Surface Mount; Case/Package: 1206; Number of Pins: 8; Case Code (Metric): 3216; Case Code (Imperial): 1206; Number of Terminals: 8; Min Operating Temperature: -55°C; Max Operating Temperature: 125°C; Packaging: Tape and Reel; Package Quantity: 5000; Tolerance: 5%; Termination: SMD/SMT; Length: 0.126inch; Height: 0.024inch; Width: 1.6mm; Terminal Pitch: 0.8mm; Radiation Hardening: No; Supplier Part Number 1: 667-EXB-38V912JV
footprint R 0603 EXB38v-4array
pins: 1, 2, 3, 4, 5, 6, 7, 8
text: Array

## FA2805-CLB
designator TR?, comment FA2805
Audio & Signal Transformers FA2805 SMT Flyback For Si341, Si3402; Manufacturer: Coilcraft; Manufacturer Part Number: FA2805-CLB; Turns Ratio: 1:0.4; Inductance: 40uh; DC Resistance (DCR): 40mR; Isolation Voltage: 1.5kV; Shielding: Shielded; Current Rating: 3A; Max DC Current: 2A; Power Rating: 15W; Supplier 1: Mouser; Stock 1: 241; Pricing 1: 1=3.9, 10=3.51, 50=3.12, 100=2.89, 1000=2.26, 10000=2.26 (USD); Case/Package: SMD/SMT; Min Operating Temperature: -40°C; Max Operating Temperature: 85°C; Termination: SMD/SMT; Packaging: Cut Tape; Package Quantity: 1; Length: 13.46mm; Height: 12.7mm; Width: 13mm; REACH SVHC: No SVHC; Lead Free: Contains Lead; Supplier Part Number 1: 994-FA2805-CLB
footprint FA2805-CLB
pins: 1, 2, 7, 8, 9, 10

## FAN_CON
designator J?, comment Pads FAN  Supplier Part Number 1: 455-2257-ND
Pads para soldar el fan; Manufacturer 1: JST; Manufacturer Part Number 1: S2B-XH-A(LF)(SN); Current Rating: 3A; Contact Resistance: 20mR; Voltage Rating (AC): 250V; Number of Positions: 2; Insulation Resistance: 1GR; Gender: Male; Connector Type: Male Pin; Pitch: 2.5mm; Wire/Cable Gauge: 22AWG; Supplier 1: Digi-Key; Stock 1: 69324; Pricing 1: 1=0,17000, 10=0,16200, 100=0,11260, 500=0,09524, 1000=0,07792, 5000=0,06927, 10000=0,06277 (USD); RoHS: Yes; Mount: Through Hole; Contact Material: Brass; Contact Plating: Tin,Copper,Lead; Color: Natural; Housing Color: White; Housing Material: Polyamide; Min Operating Temperature: -25°C; Max Operating Temperature: 85°C; Number of Rows: 1; Voltage Rating: 250V; Max Current Rating: 3A; Package Quantity: 1000; Packaging: Bulk; Termination: Press-Fit; Number of Contacts: 2; Max Voltage Rating (AC): 250V; Max Voltage Rating (DC): 250V; Orientation: Right Angle; Length: 7.4mm; Lead Pitch: 2.5mm; Depth: 11.5mm; Lead Free: Lead Free; REACH SVHC: No SVHC; ComponentLink1URL: https://datasheet.ciiva.com/16208/s2b-xh-alfsn-16208978.pdf?src-supplier=Future+Electronics; ComponentLink1Description: https://datasheet.ciiva.com/16208/s2b-xh-alfsn-16208978.pdf?src-supplier=Future+Electronics; ComponentLink2URL: https://datasheet.ciiva.com/8052/1684882-8052211.pdf?src-supplier=Element14; ComponentLink2Description: https://datasheet.ciiva.com/8052/1684882-8052211.pdf?src-supplier=Element14; ComponentLink3URL: https://datasheet.ciiva.com/11746/0900766b8082f560-11746947.pdf?src-supplier=RSComponents; ComponentLink3Description: https://datasheet.ciiva.com/11746/0900766b8082f560-11746947.pdf?src-supplier=RSComponents; ComponentLink4URL: https://datasheet.ciiva.com/26894/getdatasheetpartid-640270-26894603.pdf?src-supplier=Verical; ComponentLink4Description: https://datasheet.ciiva.com/26894/getdatasheetpartid-640270-26894603.pdf?src-supplier=Verical; ComponentLink5URL: https://datasheet.ciiva.com/26924/getdatasheetpartid-645395-26924076.pdf?src-supplier=Verical; ComponentLink5Description: https://datasheet.ciiva.com/26924/getdatasheetpartid-645395-26924076.pdf?src-supplier=Verical; ComponentLink6URL: https://datasheet.ciiva.com/26894/getdatasheetpartid-441330-26894909.pdf?src-supplier=Verical; ComponentLink6Description: https://datasheet.ciiva.com/26894/getdatasheetpartid-441330-26894909.pdf?src-supplier=Verical; ComponentLink7URL: https://datasheet.ciiva.com/726/exh-726412.pdf?src-supplier=Digi-Key; ComponentLink7Description: https://datasheet.ciiva.com/726/exh-726412.pdf?src-supplier=Digi-Key; ComponentLink8URL: https://datasheet.ciiva.com/20207/523653-20207183.pdf?src-supplier=Rapid+Electronics; ComponentLink8Description: https://datasheet.ciiva.com/20207/523653-20207183.pdf?src-supplier=Rapid+Electronics
footprint S2B-XH-A(LF)(SN)
pins: 1 VCC, 2 GND

## FC68148
designator J?, comment FC68148 Conn
AÑADIR A MANO¡¡¡¡¡
footprint PJ-102A
pins: RING, RING_SW, TIP

## FSUSB42UMX
designator U?, comment USB SWITCH
USB MULTIMEDIA SWITCHES
footprint QFN40P140X180X55-10N
pins: 1 D+, 2 D-, 3 GND, 4 HSD1-, 5 HSD1+, 6 HSD2-, 7 HSD2+, 8 ~{OE}, 9 VCC, 10 SEL

## GCM32ER70J476KE19L
designator C?, comment 47uF 6.3V X7R 1210
CAP CER 47UF 6.3V X7R 1210; Manufacturer: Murata Electronics North America; Manufacturer Part Number: GCM32ER70J476KE19L; Tolerance: ±10%; Supplier 1: Digi-Key; RoHS: RoHS Compliant; Category: Capacitors; Stock 1: 79801; Pricing 1: 1=0.89, 10=0.699, 100=0.5241, 500=0.39596 (EUR); Packaging: Cut Tape (CT); Part Status: Active; Voltage - Rated: 6.3V; Temperature Coefficient: X7R; Operating Temperature: -55°C ~ 125°C; Features: -; Ratings: AEC-Q200; Applications: Automotive; Mounting Type: Surface Mount, MLCC; Package / Case: 1210 (3225 Metric); Size / Dimension: 0.126" L x 0.098" W (3.20mm x 2.50mm); Height - Seated (Max): -; Thickness (Max): 0.106" (2.70mm); Lead Spacing: -; Lead Style: -; ComponentLink1URL: https://www.murata.com/~/media/webrenewal/support/library/catalog/products/capacitor/mlcc/c03e.ashx; ComponentLink1Description: https://www.murata.com/~/media/webrenewal/support/library/catalog/products/capacitor/mlcc/c03e.ashx; Supplier Part Number 1: 490-4844-1-ND
footprint C 1210/3225
pins: 1, 2

## GRM21BR61E226ME44K
designator C?, comment 22uF X5R 25V 0805
Multilayer Ceramic Capacitors MLCC - SMD/SMT; Manufacturer: Murata; Manufacturer Part Number: GRM21BR61E226ME44K; Tolerance: 20%; Supplier 1: Mouser; Stock 1: 50478; Pricing 1: 1=0.54, 10=0.383, 50=0.383, 100=0.252, 1000=0.159, 10000=0.148 (USD); Mount: Surface Mount; Case/Package: 0805; Weight: 0.000335oz; Case Code (Imperial): 0805; Case Code (Metric): 2012; Min Operating Temperature: -55°C; Max Operating Temperature: 85°C; Packaging: Tape and Reel; Capacitance: 22uF; Voltage Rating: 25V; Dielectric: X5R; Termination: SMD/SMT; Composition: Ceramic; Voltage Rating (DC): 25V; Package Quantity: 10000; Length: 0.079inch; Height: 1.25mm; Width: 1.25mm; Thickness: 0.057inch; Supplier Part Number 1: 81-GRM21BR61E226ME4K
footprint C 0805/2012
pins: 1, 2

## GRM033C81C104KE14E
designator C?, comment 0.1uF X6S 16V 0603
Condensadores de cerámica multicapa (MLCC- SMD/SMT); Manufacturer: Murata; Manufacturer Part Number: GRM033C81C104KE14E; Supplier 1: Mouser; Stock 1: 230659; Pricing 1: 1=0.1, 10=0.061, 50=0.061, 100=0.027, 1000=0.015, 10000=0.01 (USD); Supplier Part Number 1: 81-GRM033C81C104KE4E
footprint C 0603/1608
pins: 1, 2

## GRM1885C1H332JA01D
designator C?, comment 3300pF 50V C0G 0603
Multilayer Ceramic Capacitors MLCC - SMD/SMT 0603 3300pF 50volts C0G 5%; Manufacturer: Murata; Manufacturer Part Number: GRM1885C1H332JA01D; Capacitance: 3.3nF; Supplier 1: Mouser; Stock 1: 86547; Pricing 1: 1=0.18, 10=0.125, 50=0.125, 100=0.063, 1000=0.038, 10000=0.028 (USD); Mount: Surface Mount; Case/Package: 0603; Case Code (Metric): 1608; Case Code (Imperial): 0603; Material: Ceramic; Min Operating Temperature: -55°C; Max Operating Temperature: 125°C; Tolerance: 5%; Dielectric: C0G; Voltage Rating: 50V; Packaging: Tape and Reel; Package Quantity: 4000; Termination: SMD/SMT; Voltage: 50V; Voltage Rating (DC): 50V; Length: 1.6mm; Height: 0.8mm; Width: 0.031inch; Thickness: 0.035inch; Depth: 0.8mm; Radiation Hardening: No; REACH SVHC: No SVHC; Lead Free: Lead Free; ComponentLink1URL: https://www.murata.com/~/media/webrenewal/support/library/catalog/products/capacitor/mlcc/c02e.ashx?la=en-us; ComponentLink1Description: https://www.murata.com/~/media/webrenewal/support/library/catalog/products/capacitor/mlcc/c02e.ashx?la=en-us; ComponentLink2URL: http://www.mouser.com/ds/2/281/c02e-2905.pdf; ComponentLink2Description: http://www.mouser.com/ds/2/281/c02e-2905.pdf; ComponentLink3URL: https://produktinfo.conrad.com/datenblaetter/450000-474999/450783-da-01-en-VS_KONDENSATOR_0603.pdf; ComponentLink3Description: https://produktinfo.conrad.com/datenblaetter/450000-474999/450783-da-01-en-VS_KONDENSATOR_0603.pdf; Supplier Part Number 1: 81-GRM1885C1H332JA1D
footprint C 0603/1608
pins: 1, 2